# EAGLE library part DRVA4955 (library Bits_library_eagle 9x)
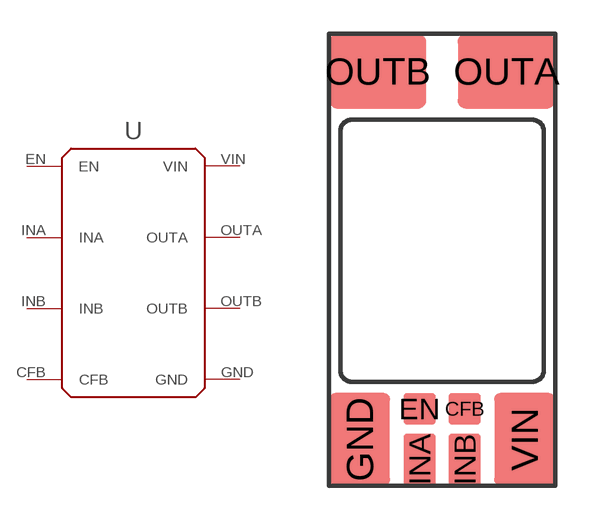
[diagram p95: symbol with the pads of DRVA4955; footprint DRVA4955]

Designator prefix -

## DRVA4955  [DRVA4955]
CFB  CFB
EN  EN
GND  GND  pwr
INA  INA
INB  INB
OUTA  OUTA
OUTB  OUTB
VIN  VIN  pwr

## Footprint DRVA4955 (pad centres in mm)
smd 1.4 x 1.4: CFB 1,-6.6; EN -1,-6.6
smd 2.7 x 4.1: GND -3.65,-7.95; VIN 3.65,-7.95
smd 1.4 x 2.3: INA -1,-8.85; INB 1,-8.85
smd 4.3 x 3.3: OUTA 2.85,8.35; OUTB -2.85,8.35